# EAGLE library part WM8978 (library Domino)
Stereo CODEC with Speaker Driver
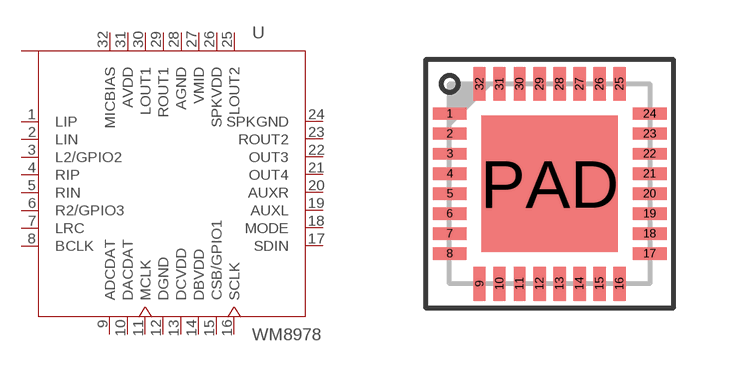
[diagram p47: symbol with the pads of QFN-32_EP_5X5; footprint QFN-32_EP_5X5]

Designator prefix U

## WM8978CGEFL  [QFN-32_EP_5X5]
1  LIP  pas
2  LIN  pas
3  L2/GPIO2  pas
4  RIP  pas
5  RIN  pas
6  R2/GPIO3  pas
7  LRC
8  BCLK
9  ADCDAT  out
10  DACDAT  in
11  MCLK  in
12  DGND  pwr
13  DCVDD  pwr
14  DBVDD  pwr
15  CSB/GPIO1
16  SCLK  in
17  SDIN
18  MODE  in
19  AUXL  pas
20  AUXR  pas
21  OUT4  pas
22  OUT3  pas
23  ROUT2  pas
24  SPKGND  pwr
25  LOUT2  pas
26  SPKVDD  pwr
27  VMID  pas
28  AGND  pwr
29  ROUT1  pas
30  LOUT1  pas
31  AVDD  pwr
32  MICBIAS  pas
PAD  PAD  pwr

## Footprint QFN-32_EP_5X5 (pad centres in mm)
Quad Flat No-lead Package (QFN),32 Pins, Exposed Pad, 5 x 5 mm Body
smd 0.85 x 0.3: 1 -2.5,1.75; 2 -2.5,1.25; 3 -2.5,0.75; 4 -2.5,0.25; 5 -2.5,-0.25; 6 -2.5,-0.75; 7 -2.5,-1.25; 8 -2.5,-1.75; 17 2.5,-1.75; 18 2.5,-1.25; 19 2.5,-0.75; 20 2.5,-0.25; 21 2.5,0.25; 22 2.5,0.75; 23 2.5,1.25; 24 2.5,1.75
smd 0.3 x 0.85: 9 -1.75,-2.5; 10 -1.25,-2.5; 11 -0.75,-2.5; 12 -0.25,-2.5; 13 0.25,-2.5; 14 0.75,-2.5; 15 1.25,-2.5; 16 1.75,-2.5; 25 1.75,2.5; 26 1.25,2.5; 27 0.75,2.5; 28 0.25,2.5; 29 -0.25,2.5; 30 -0.75,2.5; 31 -1.25,2.5; 32 -1.75,2.5
smd 3.4 x 3.4: PAD 0,0